# Altium schematic symbol library QUTMS_JSTHeaderLibrary.SchLib: 9 symbols
Pins are listed as number, name and electrical type; pins without a type are passive.

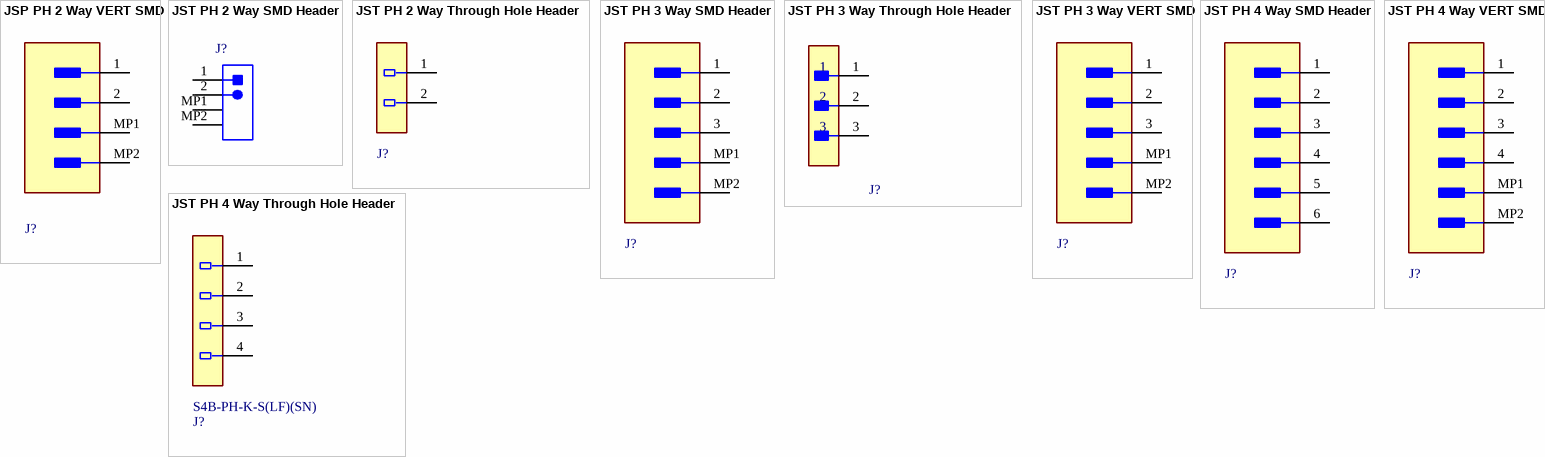
[diagram p0: symbols JSP PH 2 Way VERT SMD to JST PH 4 Way VERT SMD]

## JSP PH 2 Way VERT SMD
designator J?
Manufacturer: JST; Category Bda670Ac885E6661: Uncategorized; Category E7012A0Bd22E3Cc6: Headers & Receptacles; contact_material: Brass; pin_pitch: 2 mm; size_length: 7.95 mm; Num Pins: 2; voltage_rating_ac: 100 V; contact_plating: Tin; Category Dab617Bcef8C0171: PC Board; Category E42C2926D3763Feb: Wire to Board; number_of_rows: 1; Category 75Fab8F04590Ae3D: Connectors and Adapters; size_width: 5 mm; gender: Female; current_rating: 2 A; size_height: 6.6 mm; insulation_resistance: 1 GΩ; Category 0836C53C3D42D3F1: Connectors; helpURL: https://upverter.com/upn/revision/aa2260f5f3c02952/; ComponentLink2Description: Datasheet; Temperature: -25˚C to +85˚C; Package: CONN_SMT_7MM95_5MM0; Supplier 2: Mouser; Price: 0.401172514632; Supplier 1: Digi-Key; ComponentLink1URL: https://upverter.com/upn/revision/aa2260f5f3c02952/; Supplier Part Number 1: 455-1734-1-ND; ComponentLink1Description: Upverter; ComponentLink2URL: https://upverter.com/datasheet/05f4473ffc638d76a3bb68900fd4324175be47ba.pdf; RoHS: TRUE; color: White; Category Fcf631Fcc9332731: Uncategorized; number_of_contacts: 2; Temperature Range Low: -25˚C; Digikey Part Number: 455-1734-1-ND; housing_color: Natural; Category A3C16Ecb93907806: Uncategorized; Temperature Range High: +85˚C; Lead Free: yes; flammability_rating: UL 94 V-0; Digikey Description: CONN 2 Positions Header, Shrouded Connector 0.079" (2.00mm) Surface Mount Tin; number_of_positions: 2; housing_material: Nylon; Mounting Type: surface mount
footprint JST 2P VERT SMD
pins: 1, 2, MP1 MNT 1, MP2 MNT 2

## JST PH 2 Way SMD Header
designator J?  (value not drawn)
PartNumber: S2B-PH-SM4-TB(LF)(SN); Current Rating: 3 A; RoHSCompliant: True; Min Operating Temperature: -65degC; Width: 2.34 mm; Pins: 40; ComponentLink1Description: Manufacturer URL; ComponentLink2Description: Datasheet; DatasheetVersion: Dec-12; ComponentLink1URL: http://www.jst.com/home2.html; Contact Plating: Tin; ComponentLink2URL: http://www.jst-mfg.com/product/pdf/eng/ePH.pdf; PackageReference: S2B-PH-SM4-TB(LF)(SN)-2; Mount: Through Hole; Contact Finish: Lead; Length: 101.19 mm; Radiation Hardening: No; Lead Pitch: 0.1 inch; Max Operating Temperature: 105degC; Colour: Black; Package Quantity: 100; Height: 8.13 mm; Packaging: Bulk; PackageDescription: Male Header, Pitch 2 mm, 1 x 2 Position, Height 5.5 mm; Contact Material: Bronze
footprint JST 2P SMD (SMD, 2-Leads, Body 7.9x7.6mm, Pitch 2mm)
pins: 1, 2, MP1, MP2

## JST PH 2 Way Through Hole Header
designator J?  (value not drawn)
footprint JST 2P TH
pins: 1, 2

## JST PH 3 Way SMD Header
designator J?  (value not drawn)
footprint JST 3P SMD
pins: 1, 2, 3, MP1 MNT 1, MP2 MNT 2

## JST PH 3 Way Through Hole Header
designator J?  (value not drawn)
footprint JST 3P TH
pins: 1, 2, 3

## JST PH 3 Way VERT SMD
designator J?  (value not drawn)
footprint JST 3P VERT SMD
pins: 1, 2, 3, MP1 MNT 1, MP2 MNT 2

## JST PH 4 Way SMD Header
designator J?  (value not drawn)
footprint JST 4P SMD
pins: 1, 2, 3, 4, 5 MNT 1, 6 MNT 2

## JST PH 4 Way Through Hole Header
designator J?  Part Number: S4B-PH-K-S(LF)(SN)
Manufacturer: JST; helpURL: https://upverter.com/upn/revision/a04d3038e6c69606/; ComponentLink2Description: Datasheet; Temperature: -25°C to +85°C; Package: HDR4; Supplier 2: Mouser; Price: 0.141609370397; Supplier 1: Digi-Key; ComponentLink1URL: https://upverter.com/upn/revision/a04d3038e6c69606/; Supplier Part Number 1: 455-1721-ND; ComponentLink1Description: Upverter; ComponentLink2URL: http://www.jst-mfg.com/product/pdf/eng/ePH.pdf; RoHS: TRUE; Temperature Range High: +85°C; Digikey Description: CONN HEADER PH SIDE 4POS 2MM; Digikey Part Number: 455-1721-ND; Temperature Range Low: -25°C; Lead Free: yes
footprint JST 4P TH
pins: 1, 2, 3, 4

## JST PH 4 Way VERT SMD
designator J?  (value not drawn)
footprint JST 4P VERT SMD
pins: 1, 2, 3, 4, MP1 MNT 1, MP2 MNT 2